# EAGLE library part RN4020 (library jseng)
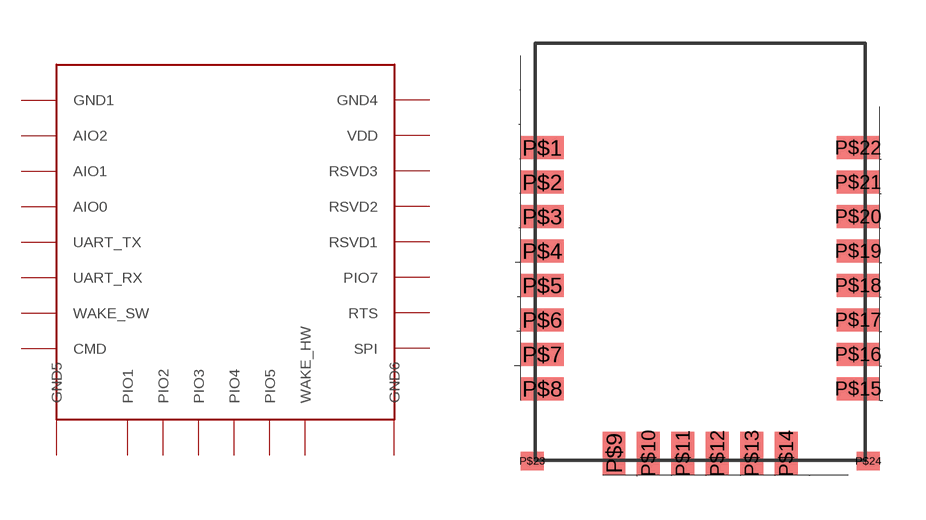
[diagram p11: symbol with the pads of RN4020_PKG; footprint RN4020_PKG]

Designator prefix -

## RN4020  [RN4020_PKG]
P$1  GND1
P$2  AIO2
P$3  AIO1
P$4  AIO0
P$5  UART_TX
P$6  UART_RX
P$7  WAKE_SW
P$8  CMD
P$9  PIO1
P$10  PIO2
P$11  PIO3
P$12  PIO4
P$13  PIO5
P$14  WAKE_HW
P$15  SPI
P$16  RTS
P$17  PIO7
P$18  RSVD1
P$19  RSVD2
P$20  RSVD3
P$21  VDD
P$22  GND4
P$23  GND5
P$24  GND6

## Footprint RN4020_PKG (pad centres in mm)
smd 1.5 x 0.8: P$1 0.25,10.9; P$2 0.25,9.7; P$3 0.25,8.5; P$4 0.25,7.3; P$5 0.25,6.1; P$6 0.25,4.9; P$7 0.25,3.7; P$8 0.25,2.5; P$15 11.25,2.5; P$16 11.25,3.7; P$17 11.25,4.9; P$18 11.25,6.1; P$19 11.25,7.3; P$20 11.25,8.5; P$21 11.25,9.7; P$22 11.25,10.9
smd 0.8 x 1.5: P$9 2.75,0.25; P$10 3.95,0.25; P$11 5.15,0.25; P$12 6.35,0.25; P$13 7.55,0.25; P$14 8.75,0.25
smd 0.8 x 0.635: P$23 -0.1,-0.02; P$24 11.6,-0.02